# EAGLE library part LT3799-1 (library PowerProducts)
LT-Spice library generated with : ltspice.ulp from: D:/Program Files (x86)/LTC/LTspiceIV/lib/sym/PowerProducts/LT3800*.asy at 07.10.2012 16:44:11
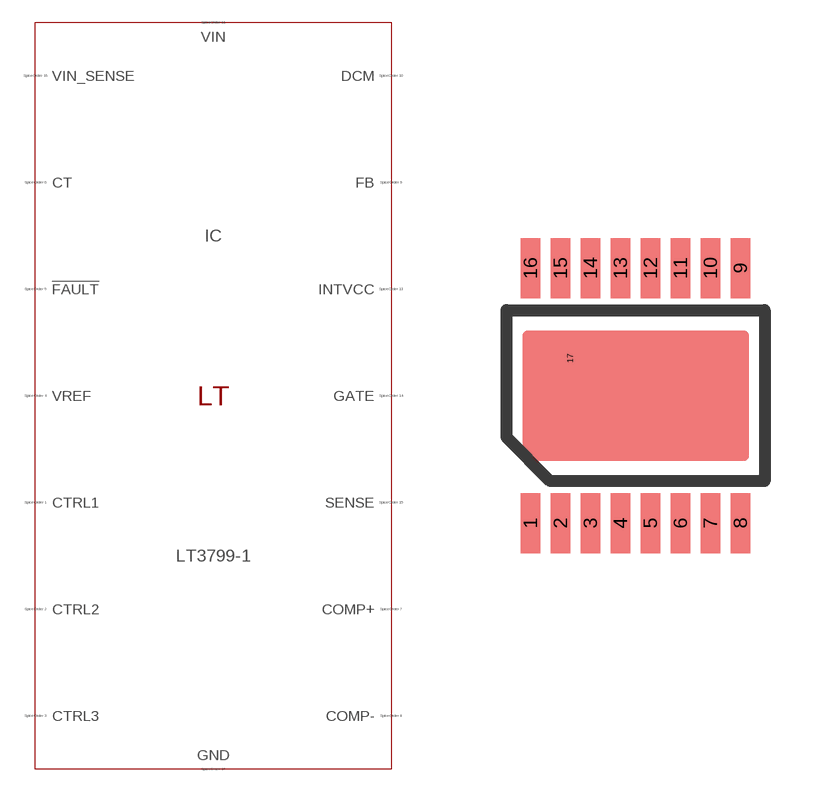
[diagram p103: symbol with the pads of MSOP16(MSE); footprint MSOP16(MSE)]

Designator prefix IC

## LT3799-1 (SPICEMODEL: LT3799-1.sub; SPICEPREFIX: X; VALUE2: LT3799-1)  [MSOP16(MSE)]
1  CTRL1  pas
2  CTRL2  pas
3  CTRL3  pas
4  VREF  pas
5  !FAULT  pas
6  CT  pas
7  COMP+  pas
8  COMP-  pas
9  FB  pas
10  DCM  pas
11  VIN  pas
13  INTVCC  pas
14  GATE  pas
15  SENSE  pas
16  VIN_SENSE  pas
17  GND  pas

## Footprint MSOP16(MSE) (pad centres in mm)
Package generated from: MSOP16(MSE).asc (!PADS-POWERPCB-V9.3-BASIC! DESIGN DATABASE ASCII FILE 1.0) with :import-pads-powerpcb-v5.ulp Version 1.0.1 at 04.10.2012 14:11:19
smd 0.495 x 1.5: 1 -2.625,-3.188; 2 -1.875,-3.188; 3 -1.125,-3.188; 4 -0.375,-3.188; 5 0.375,-3.188; 6 1.125,-3.188; 7 1.875,-3.188; 8 2.625,-3.188; 9 2.625,3.188; 10 1.875,3.188; 11 1.125,3.188; 12 0.375,3.188; 13 -0.375,3.188; 14 -1.125,3.188; 15 -1.875,3.188; 16 -2.625,3.188
smd 0 x 0.525: 17 -1.635,0.93